# Altium schematic symbol library Connection.SchLib: 1 symbol
Pins are listed as number, name and electrical type; pins without a type are passive.

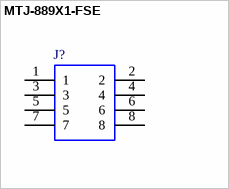
[diagram p0: symbol MTJ-889X1-FSE]

## MTJ-889X1-FSE
designator J?
MODULAR JACK RJ45 8P8C; Manufacturer_Name: Adam Tech; Geometry.Height: 12.3mm; Manufacturer_Part_Number: MTJ-889X1-FSE; Mouser Part Number: *; Mouser Price/Stock: *; Arrow Part Number: MTJ-889X1-FSE; Arrow Price/Stock: https://www.arrow.com/en/products/mtj-889x1-fse/adam-tech?region=nac; Mouser Testing Part Number: *; Mouser Testing Price/Stock: *; Datasheet Link: *
footprint MTJ889X1FSE
footprint MTJ889X1FSE
pins: 1, 2, 3, 4, 5, 6, 7, 8